# Altium footprint library SW6X6-2L.PcbLib: 1 footprints
Each footprint in its own frame and in the unit in brackets; x right, y up, seen from the top. Pads: shape width x height; smd on the part's side, far side on the other; paste and mask are expansions set on the pad; w line width, h text height; cw(c..) or ccw(c..) is an arc to the next point about the centre after c.
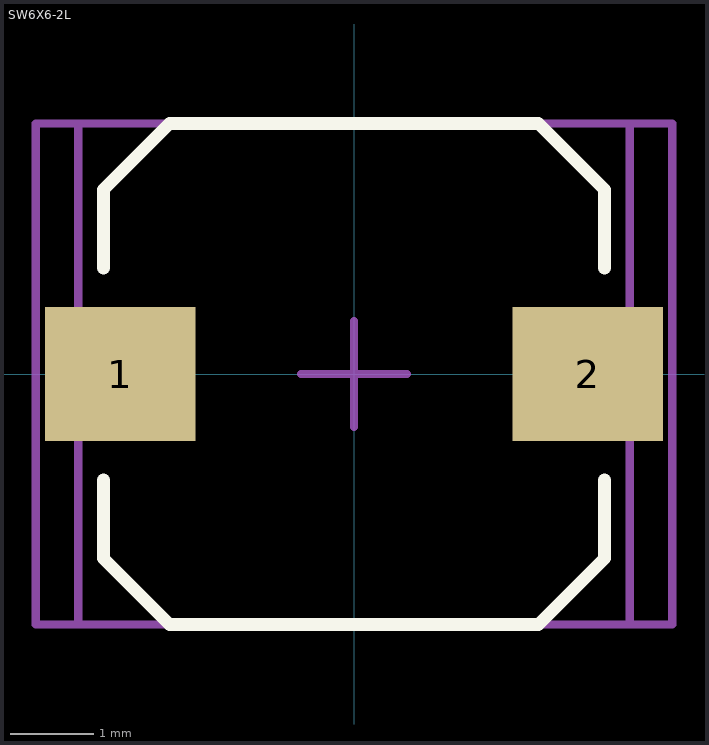
[diagram p0: the footprint, top view; thin cyan lines are the x and y axes]

## SW6X6-2L [mm] "Pitch 5.6mm Body 6x6mm High 5mm"
height 5
pads (2):
  rect 1.8x1.6 smd: 1(-2.8,0) 2(2.8,0)
Top Overlay:
  lines w0.152: -3,-1.27 -3,-2.207 -2.207,-3 2.207,-3 3,-2.207 3,-1.27 ; -3,1.27 -3,2.207 -2.207,3 2.207,3 3,2.207 3,1.27
Mechanical 13:
  lines w0.1: -3.302,-3 3.302,-3 3.302,3 -3.302,3 -3.302,-3
Mechanical 15:
  lines w0.1: -0.635,0 0.635,0 ; 0,-0.635 0,0.635 ; -3.81,-3 -3.81,3 3.81,3 3.81,-3 -3.81,-3
Mechanical 29:
  lines w0.1: -3.302,-3 -3.302,3 3.302,3 3.302,-3 -3.302,-3
  text ".Designator" at -0.762,-0.508 h1.52
3D body: height 5.2, standoff 0, extent -3.3,-2.95 3.3,2.95